# Altium schematic symbol library BLDC_BridgeBoard_V1_1.SCHLIB: 15 symbols
Pins are listed as number, name and electrical type; pins without a type are passive.

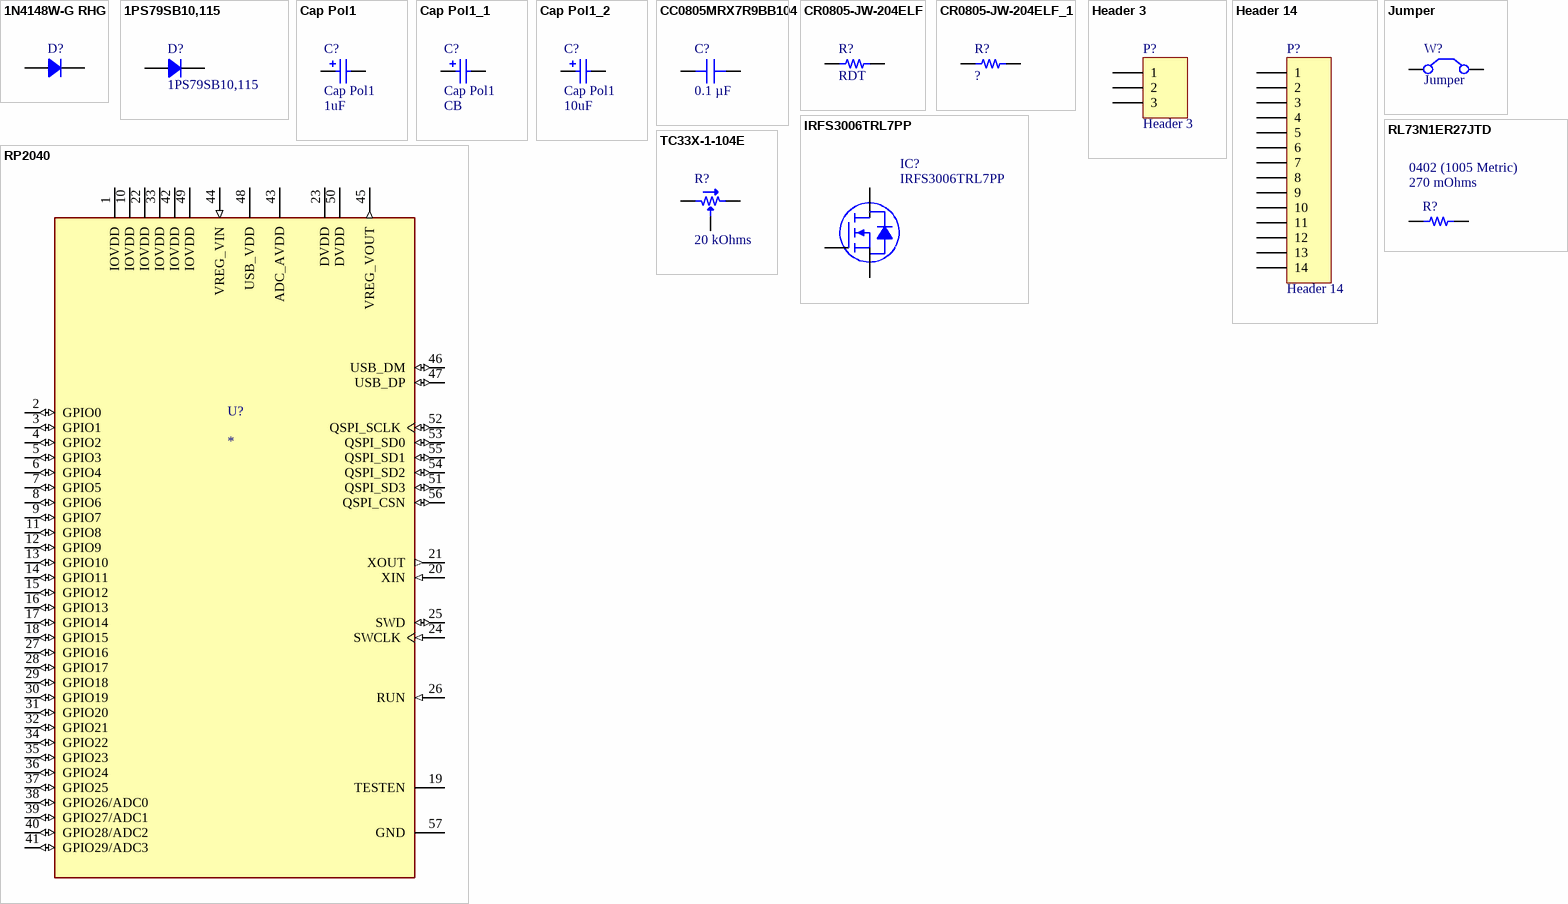
[diagram p0: symbols 1N4148W-G RHG to TC33X-1-104E]

## 1N4148W-G RHG
designator D?  (value not drawn)
DIODE GEN PURP 100V 150MA SOD123; Manufacturer: Taiwan Semiconductor Corporation; Capacitance @ Vr, F: 2pF @ 0V, 1MHz; Current - Reverse Leakage @ Vr: 2.5 µA @ 75 V; Diode Type: Standard; Reverse Recovery Time (trr): 4 ns; Speed: Small Signal =< 200mA (Io), Any Speed; Voltage - Forward (Vf) (Max) @ If: 1.25 V @ 150 mA; Part Number: 1N4148W-G RHG; ComponentLink1Description: Datasheet; ComponentLink1URL: https://www.taiwansemi.com/products/datasheet/1N4148W-G_D1601.pdf; ComponentLink2Description: DigiKey Link; ComponentLink2URL: https://www.digikey.com/en/products/detail/taiwan-semiconductor-corporation/1N4148W-G-RHG/7374103; Current - Average Rectified (Io): 150mA; LastUpdated: 02/11/2023 20:45:33; Lifecycle Status: Active; Minimum Order: 1; Mounting Type: Surface Mount; Operating Temperature - Junction: -65°C ~ 150°C; Package / Case: SOD-123; Packaging: TapeAndReel; PartId: 1018; Part Status: Active; Price: 0.02; Series: -; Supplier 1: DigiKey; Supplier Part Number 1: 1N4148W-GRHGCT-ND; Supplier Device Package: SOD-123; Voltage - DC Reverse (Vr) (Max): 100 V
footprint SOD-123
pins: 1, 2

## 1PS79SB10,115
designator D?
DIODE SCHOTTKY 30V 200MA SOD523; Manufacturer: Nexperia USA Inc.; Capacitance @ Vr, F: 10pF @ 1V, 1MHz; Current - Reverse Leakage @ Vr: 2 µA @ 25 V; Speed: Small Signal =< 200mA (Io), Any Speed; Voltage - Forward (Vf) (Max) @ If: 800 mV @ 100 mA; Part Number: 1PS79SB10,115; ComponentLink1Description: Datasheet; ComponentLink1URL: https://assets.nexperia.com/documents/data-sheet/1PS79SB10.pdf; ComponentLink2Description: DigiKey Link; ComponentLink2URL: https://www.digikey.com/en/products/detail/nexperia-usa-inc/1PS79SB10-115/1229075; Current - Average Rectified (Io): 200mA; Diode Type: Schottky; LastUpdated: 23/11/2023 21:28:29; Lifecycle Status: Active; Minimum Order: 1; Mounting Type: Surface Mount; Operating Temperature - Junction: 125°C (Max); Package / Case: SC-79, SOD-523; Packaging: TapeAndReel; PartId: 2828; Part Status: Active; Price: 0.03; Series: -; Supplier 1: DigiKey; Supplier Part Number 1: 1727-4780-1-ND; Supplier Device Package: SOD-523; Voltage - DC Reverse (Vr) (Max): 30 V
footprint SOD-523
pins: 1, 2

## Cap Pol1
designator C?  value 1uF
Polarized Capacitor (Radial); Published: 8-Jun-2000; LatestRevisionDate: 17-Jul-2002; LatestRevisionNote: Re-released for DXP Platform.; PackageReference: RB7.6-15; Publisher: Altium Limited; PackageDescription: Polarized Capacitor (Radial); 2 Leads
footprint CapacitorRadialElectrolytic
simulation model CAP (Capacitor)
signal-integrity model Cap Pol
footprint CapacitorRadialElectrolytic
pins: 1, 2
1 alternate drawing of the same symbol

## Cap Pol1_1
designator C?, comment Cap Pol1  value CB
Polarized Capacitor (Radial); Published: 8-Jun-2000; LatestRevisionDate: 17-Jul-2002; LatestRevisionNote: Re-released for DXP Platform.; PackageReference: RB7.6-15; Publisher: Altium Limited; PackageDescription: Polarized Capacitor (Radial); 2 Leads
footprint CapacitorRadialElectrolytic
simulation model CAP (Capacitor)
signal-integrity model Cap Pol
footprint CapacitorRadialElectrolytic
pins: 1, 2
1 alternate drawing of the same symbol

## Cap Pol1_2
designator C?, comment Cap Pol1  value 10uF
Polarized Capacitor (Radial); Published: 8-Jun-2000; LatestRevisionDate: 17-Jul-2002; LatestRevisionNote: Re-released for DXP Platform.; PackageReference: RB7.6-15; Publisher: Altium Limited; PackageDescription: Polarized Capacitor (Radial); 2 Leads
footprint CapacitorRadialElectrolytic
simulation model CAP (Capacitor)
signal-integrity model Cap Pol
footprint CapacitorRadialElectrolytic
pins: 1, 2
1 alternate drawing of the same symbol

## CC0805MRX7R9BB104
designator C?, comment 0.1 µF
CAP CER 0.1UF 50V X7R 0805; Part Number: CC0805MRX7R9BB104; manufacturer: Yageo; Tolerance: ±20%; Applications: General Purpose; Capacitance: 0.1 µF; componentlink1description: Datasheet; componentlink1url: https://www.yageo.com/upload/media/product/productsearch/datasheet/mlcc/UPY-GPHC_X7R_6.3V-to-50V_18.pdf; componentlink2description: DigiKey Link; componentlink2url: https://www.digikey.com/en/products/detail/yageo/CC0805MRX7R9BB104/5884281; Device Package: 0805 (2012 Metric); lastupdated: 15/11/2023 20:14:20; Lifecycle Status: Active; Minimum Order: 1; Mounting Type: Surface Mount, MLCC; Operating Temperature: -55°C ~ 125°C; Package / Case: 0805 (2012 Metric); packaging: TapeAndReel; partid: 2475; Part Status: Active; price: 0.01; series: CC; Size / Dimension: 0.079" L x 0.049" W (2.00mm x 1.25mm); Supplier 1: DigiKey; Supplier Part Number 1: 311-4351-1-ND; Temperature Coefficient: X7R; Thickness (Max): 0.037" (0.95mm); Voltage - Rated: 50V; Value: 0.1 µF
footprint CAP 0805_2012
pins: 1, 2

## CR0805-JW-204ELF
designator R?, comment RDT
RES SMD 200K OHM 5% 1/8W 0805; Part Number: CR0805-JW-204ELF; Manufacturer: Bourns Inc.; Power (Watts): 0.125W, 1/8W; Resistance: 200 kOhms; Temperature Coefficient: ±200ppm/°C; ComponentLink1Description: Datasheet; ComponentLink1URL: https://www.bourns.com/docs/product-datasheets/cr.pdf?sfvrsn=574d41f6_14; ComponentLink2Description: DigiKey Link; ComponentLink2URL: https://www.digikey.com/en/products/detail/bourns-inc/CR0805-JW-204ELF/3785267; Composition: Thick Film; Device Package: 0805 (2012 Metric); Features: Moisture Resistant; Height - Seated (Max): 0.024" (0.60mm); LastUpdated: 02/11/2023 20:02:13; Lifecycle Status: Active; Minimum Order: 1; Number of Terminations: 2; Operating Temperature: -55°C ~ 155°C; Package / Case: 0805 (2012 Metric); Packaging: TapeAndReel; PartId: 69673; Part Status: Active; Price: 0.01; Series: CR0805; Size / Dimension: 0.079" L x 0.049" W (2.00mm x 1.25mm); Supplier 1: DigiKey; Supplier Part Number 1: 118-CR0805-JW-204ELFCT-ND; Supplier Device Package: 0805; Tolerance: ±5%; Value: RDT
footprint RES 0805_2012
pins: 1, 2

## CR0805-JW-204ELF_1
designator R?, comment ?
RES SMD 200K OHM 5% 1/8W 0805; Part Number: CR0805-JW-204ELF; Manufacturer: Bourns Inc.; Power (Watts): 0.125W, 1/8W; Resistance: 200 kOhms; Temperature Coefficient: ±200ppm/°C; ComponentLink1Description: Datasheet; ComponentLink1URL: https://www.bourns.com/docs/product-datasheets/cr.pdf?sfvrsn=574d41f6_14; ComponentLink2Description: DigiKey Link; ComponentLink2URL: https://www.digikey.com/en/products/detail/bourns-inc/CR0805-JW-204ELF/3785267; Composition: Thick Film; Device Package: 0805 (2012 Metric); Features: Moisture Resistant; Height - Seated (Max): 0.024" (0.60mm); LastUpdated: 02/11/2023 20:02:13; Lifecycle Status: Active; Minimum Order: 1; Number of Terminations: 2; Operating Temperature: -55°C ~ 155°C; Package / Case: 0805 (2012 Metric); Packaging: TapeAndReel; PartId: 69673; Part Status: Active; Price: 0.01; Series: CR0805; Size / Dimension: 0.079" L x 0.049" W (2.00mm x 1.25mm); Supplier 1: DigiKey; Supplier Part Number 1: 118-CR0805-JW-204ELFCT-ND; Supplier Device Package: 0805; Tolerance: ±5%; Value: ?
footprint RES 0805_2012
pins: 1, 2

## Header 3
designator P?
Header, 3-Pin; LatestRevisionDate: 17-Jul-2002; LatestRevisionNote: Re-released for DXP Platform.; Publisher: Altium Limited
footprint HDR1X3 (Connector; Header; 3 Position)
signal-integrity model Connector
pins: 1, 2, 3

## Header 14
designator P?
Header, 14-Pin; LatestRevisionDate: 17-Jul-2002; LatestRevisionNote: Re-released for DXP Platform.; Publisher: Altium Limited
footprint HDR1X14 (Connector; Header; 14 Position)
signal-integrity model Connector
pins: 1, 2, 3, 4, 5, 6, 7, 8, 9, 10, 11, 12, 13, 14

## IRFS3006TRL7PP
designator IC?
MOSFET N-CH 60V 240A D2PAK; Manufacturer: Infineon Technologies; Current - Continuous Drain (Id) @ 25°C: 240A (Tc); Drive Voltage (Max Rds On,  Min Rds On): 10V; FET Type: N-Channel; Gate Charge (Qg) (Max) @ Vgs: 300 nC @ 10 V; Input Capacitance (Ciss) (Max) @ Vds: 8850 pF @ 50 V; Power Dissipation (Max): 375W (Tc); Rds On (Max) @ Id, Vgs: 2.1mOhm @ 168A, 10V; Vgs (Max): ±20V; Vgs(th) (Max) @ Id: 4V @ 250µA; Part Number: IRFS3006TRL7PP; ComponentLink1Description: Datasheet; ComponentLink1URL: https://www.infineon.com/dgdl/irfs3006-7ppbf.pdf?fileId=5546d462533600a4015356364189214d; ComponentLink2Description: DigiKey Link; ComponentLink2URL: https://www.digikey.com/en/products/detail/infineon-technologies/IRFS3006TRL7PP/2096605; Drain to Source Voltage (Vdss): 60 V; LastUpdated: 01/11/2023 20:47:46; Lifecycle Status: Active; Minimum Order: 1; Mounting Type: Surface Mount; Operating Temperature: -55°C ~ 175°C (TJ); Package / Case: TO-263-7, D²Pak (6 Leads + Tab), TO-263CB; Packaging: TapeAndReel; Part Status: Active; Price: 2.81; Series: HEXFET®; Supplier 1: DigiKey; Supplier Part Number 1: IRFS3006TRL7PPCT-ND; Supplier Device Package: D2PAK (7-Lead); Technology: MOSFET (Metal Oxide)
footprint INFINEON TO-263-7
pins: 1 G, 2 S, 3 S, 5 S, 6 S, 7 S, 8 D

## Jumper
designator W?
Jumper Wire; Published: 24-Mar-1999; LatestRevisionDate: 17-Jul-2002; LatestRevisionNote: Re-released for DXP Platform.; PackageReference: RAD-0.2; Publisher: Altium Limited; PackageDescription: Radial Cap, Thru-Hole; 2 Leads; 0.2 in Pin Spacing
footprint Jumper_2_pos (2 pins jumper.)
pins: 1 C1, 2 C2

## RL73N1ER27JTD
designator R?, comment 270 mOhms  Package / Case: 0402 (1005 Metric)
RES 0.27 OHM 5% 1/16W 0402; Part Number: RL73N1ER27JTD; Manufacturer: TE Connectivity Passive Product; Power (Watts): 0.063W, 1/16W; Temperature Coefficient: ±300ppm/°C; ComponentLink1Description: Datasheet; ComponentLink1URL: https://www.te.com/commerce/DocumentDelivery/DDEController?Action=srchrtrv&DocNm=1773269&DocType=DS&DocLang=English; ComponentLink2Description: DigiKey Link; ComponentLink2URL: https://www.digikey.com/en/products/detail/te-connectivity-passive-product/RL73N1ER27JTD/2364932; Composition: Thick Film; Device Package: 0402 (1005 Metric); Features: Current Sense; Height - Seated (Max): 0.017" (0.43mm); LastUpdated: 02/11/2023 20:28:47; Lifecycle Status: Active; Minimum Order: 1; Number of Terminations: 2; Operating Temperature: -55°C ~ 155°C; Packaging: TapeAndReel; PartId: 5; Part Status: Active; Price: 0.03; Resistance: 270 mOhms; Series: RL73, CGS; Size / Dimension: 0.039" L x 0.020" W (1.00mm x 0.50mm); Supplier 1: DigiKey; Supplier Part Number 1: A138777CT-ND; Supplier Device Package: 0402; Tolerance: ±5%; Value: 270 mOhms
footprint STACKPOLE CSR0402
pins: 1, 2

## RP2040
designator U?
RP2040 chip for Raspberry Pi Pico - ARM® Cortex®-M0+ MCU 32-Bit; SnapEDA_Link: https://www.snapeda.com/parts/RP2040/Raspberry+Pi/view-part/?ref=snap; Package: None; Value: *; MF: Raspberry Pi; MP: RP2040; Check_prices: https://www.snapeda.com/parts/RP2040/Raspberry+Pi/view-part/?ref=eda
footprint QFN40P700X700X90-57N
pins: 1 IOVDD (power), 2 GPIO0 (io), 3 GPIO1 (io), 4 GPIO2 (io), 5 GPIO3 (io), 6 GPIO4 (io), 7 GPIO5 (io), 8 GPIO6 (io), 9 GPIO7 (io), 10 IOVDD (power), 11 GPIO8 (io), 12 GPIO9 (io), 13 GPIO10 (io), 14 GPIO11 (io), 15 GPIO12 (io), 16 GPIO13 (io), 17 GPIO14 (io), 18 GPIO15 (io), 19 TESTEN, 20 XIN (in), 21 XOUT (out), 22 IOVDD (power), 23 DVDD (power), 24 SWCLK (in), 25 SWD (io), 26 RUN (in), 27 GPIO16 (io), 28 GPIO17 (io), 29 GPIO18 (io), 30 GPIO19 (io), 31 GPIO20 (io), 32 GPIO21 (io), 33 IOVDD (power), 34 GPIO22 (io), 35 GPIO23 (io), 36 GPIO24 (io), 37 GPIO25 (io), 38 GPIO26/ADC0 (io), 39 GPIO27/ADC1 (io), 40 GPIO28/ADC2 (io), 41 GPIO29/ADC3 (io), 42 IOVDD (power), 43 ADC_AVDD (power), 44 VREG_VIN (in), 45 VREG_VOUT (out), 46 USB_DM (io), 47 USB_DP (io), 48 USB_VDD (power), 49 IOVDD (power), 50 DVDD (power), 51 QSPI_SD3 (io), 52 QSPI_SCLK (io), 53 QSPI_SD0 (io), 54 QSPI_SD2 (io), 55 QSPI_SD1 (io), 56 QSPI_CSN (io), 57 GND (power)

## TC33X-1-104E
designator R?, comment 20 kOhms
TRIMMER 100K OHM 0.1W J LEAD TOP; Part Number: TC33X-1-104E; Manufacturer: Bourns Inc.; Adjustment Type: Top Adjustment; Number of Turns: 1; Power (Watts): 0.1W, 1/10W; Resistive Material: Cermet; Temperature Coefficient: ±250ppm/°C; Tolerance: ±25%; ComponentLink1Description: Datasheet; ComponentLink1URL: https://www.bourns.com/docs/Product-Datasheets/TC33.pdf; ComponentLink2Description: DigiKey Link; ComponentLink2URL: https://www.digikey.com/en/products/detail/bourns-inc/TC33X-1-104E/2566868; LastUpdated: 10/11/2023 21:32:20; Lifecycle Status: Active; Minimum Order: 1; Mounting Type: Surface Mount; Packaging: TapeAndReel; PartId: 1; Part Status: Active; Price: 0.11; Resistance: 20 kOhms; Series: Trimpot® TC33 - Open Frame; Size / Dimension: Rectangular - 0.150" x 0.142" Face (3.80mm x 3.60mm); Supplier 1: DigiKey; Supplier Part Number 1: TC33X-1-104ECT-ND; Termination Style: J Lead; Value: 20 kOhms
footprint POT BOURNS TRIMPOT TC33
pins: 1, 2, 3